# Altium footprint library OS202013MT8QN1.PcbLib: 1 footprints
Each footprint in its own frame and in the unit in brackets; x right, y up, seen from the top. Pads: shape width x height; smd on the part's side, far side on the other; paste and mask are expansions set on the pad; w line width, h text height; cw(c..) or ccw(c..) is an arc to the next point about the centre after c.
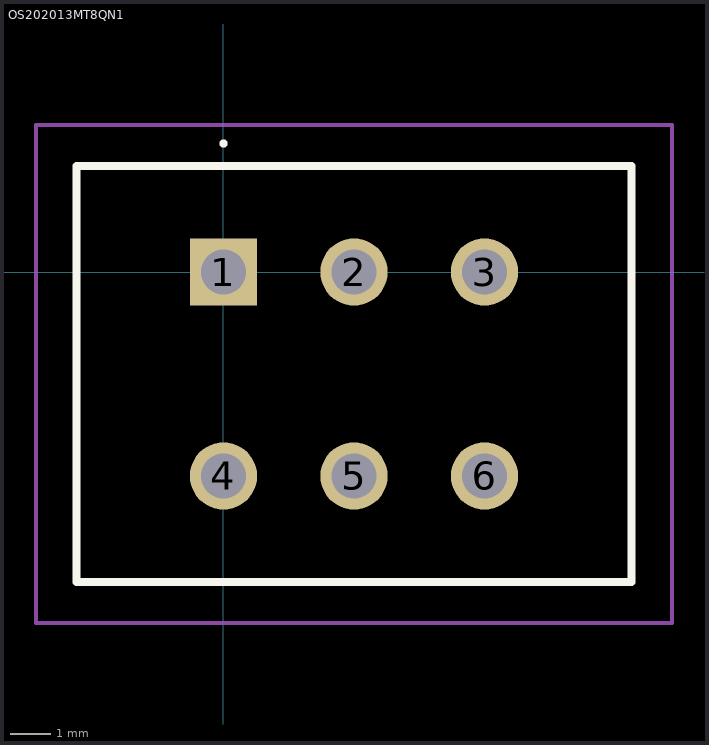
[diagram p0: the footprint, top view; thin cyan lines are the x and y axes]

## OS202013MT8QN1 [mm]
pads (6):
  rect 1.65x1.65 hole 1.1: 1(0,0)
  round 1.65 hole 1.1: 2(3.2,0) 3(6.4,0) 4(0,-5) 5(3.2,-5) 6(6.4,-5)
Top Overlay:
  lines w0.1: 0,3.1 0,3.1 ; 0,3.1 ccw(c0,3.15) 0,3.2 ; 0,3.1 cw(c0,3.15) 0,3.2 ; 0,3.2 0,3.2
  lines w0.2: -3.6,-7.6 10,-7.6 10,2.6 -3.6,2.6 -3.6,-7.6
Mechanical 15:
  lines w0.1: -3.6,-7.6 10,-7.6 10,2.6 -3.6,2.6 -3.6,-7.6
Mechanical 20:
  lines w0.1: -4.6,-8.6 11,-8.6 11,3.6 -4.6,3.6 -4.6,-8.6